# EAGLE library part 6871XX183722_687114183722 (library WR-FPC)
WR-FPC 0.50 mm SMT ZIF Horizontal Bottom Contact Low Profile KIND PROPERTIES Pitch 0.5 mm MATERIAL PROPERTIES Insulator Material LCP Contact Material Phosphor Bronze Contact Plating 120 (µ") Tin over 30 (µ") Nickel Contact Type Stamped Solder Tabs Brass <https://www.we-online.com/catalog/media/o83995v209%20Family_WR-FPC_6871xx183722.jpg> Details see: https://www.we-online.com/catalog/en/FPC_0_5_SMT_ZIF_HORIZONTAL_BOTTOM_CONTACT_LOW_PROFILE_6871xx183722/ Updated by Ella Wu 2020-08-26 2020(C) Wurth Elektronik
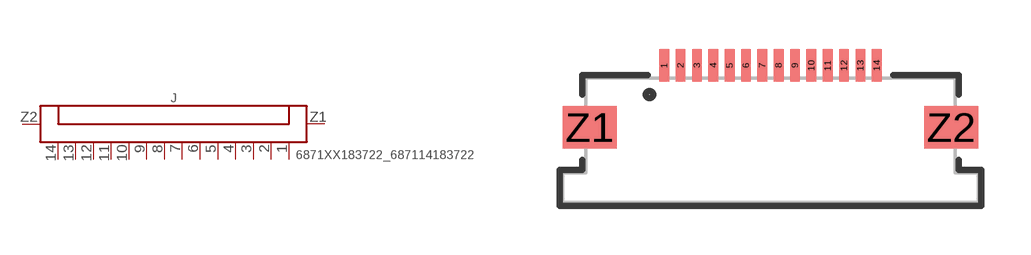
[diagram p13: symbol with the pads of 687114183722; footprint 687114183722]

Designator prefix J

## 6871XX183722_687114183722 (CONTACT-RESISTANCE: 30mOhm; DATASHEET-URL: https://www.we-online.com/redexpert/spec/687114183722?ae; IR: 0.4A; L: 12.7mm; PACKAGING: Tape and Reel; PART-NUMBER: 687114183722; PINS: 14; PITCH: 0.5mm; TYPE: Horizontal; VALUE: 687114183722; WORKING-VOLTAGE: 50V(AC))  [687114183722]
1  1  pas
2  2  pas
3  3  pas
4  4  pas
5  5  pas
6  6  pas
7  7  pas
8  8  pas
9  9  pas
10  10  pas
11  11  pas
12  12  pas
13  13  pas
14  14  pas
Z1  Z1  pas
Z2  Z2  pas

## Footprint 687114183722 (pad centres in mm)
WR-FPC 0.50 mm SMT ZIF Horizontal Bottom Contact Low Profile,14Pins
smd 0.3 x 1: 1 -3.25,2.3; 2 -2.75,2.3; 3 -2.25,2.3; 4 -1.75,2.3; 5 -1.25,2.3; 6 -0.75,2.3; 7 -0.25,2.3; 8 0.25,2.3; 9 0.75,2.3; 10 1.25,2.3; 11 1.75,2.3; 12 2.25,2.3; 13 2.75,2.3; 14 3.25,2.3
smd 1.65 x 1.3: Z1 -5.525,0.4; Z2 5.525,0.4